# Altium footprint library 10118192-0001LF.PcbLib: 2 footprints
Each footprint in its own frame and in the unit in brackets; x right, y up, seen from the top. Pads: shape width x height; smd on the part's side, far side on the other; paste and mask are expansions set on the pad; w line width, h text height; cw(c..) or ccw(c..) is an arc to the next point about the centre after c.
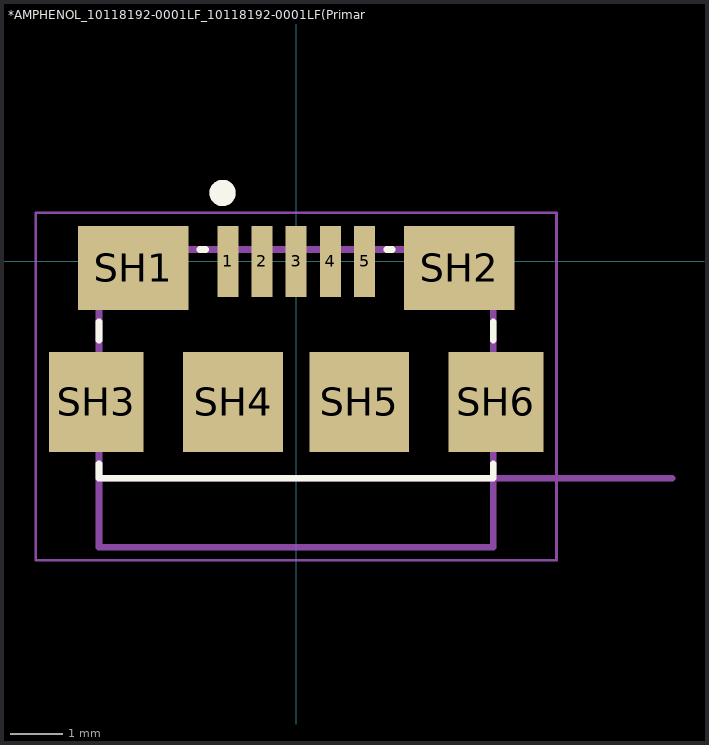
[diagram p0: the footprints below, top view; thin cyan lines are the x and y axes]

## *AMPHENOL_10118192-0001LF_10118192-0001LF(Primary) [mm]
pads (11):
  rect 0.4x1.35 smd: 1(-1.3,0) 2(-0.65,0) 3(0,0) 4(0.65,0) 5(1.3,0)
  rect 2.1x1.6 smd: SH1(-3.1,-0.125) SH2(3.1,-0.125)
  rect 1.8x1.9 smd: SH3(-3.8,-2.675) SH6(3.8,-2.675)
  rect 1.9x1.9 smd: SH4(-1.2,-2.675) SH5(1.2,-2.675)
Top Overlay:
  circle w0.3: c-1.4,1.3 r0.1
  lines w0.127: -3.75,-3.85 -3.75,-4.125 3.75,-4.125 3.75,-3.85 ; -3.75,-1.5 -3.75,-1.15 ; -1.83,0.225 -1.72,0.225 ; 1.72,0.225 1.83,0.225 ; 3.75,-1.5 3.75,-1.15
Mechanical 4:
  circle w0.3: c-1.4,1.3 r0.1
  circle w0.3: c-1.4,1.3 r0.1
  lines w0.127: -3.75,-5.436 -3.75,-4.125 ; -3.75,-5.436 3.75,-5.436 ; -3.75,-5.436 -3.75,-4.125 ; -3.75,-5.436 3.75,-5.436 ; -3.75,-4.125 3.75,-4.125 ; -3.75,-4.125 -3.75,0.225 ; -3.75,-4.125 3.75,-4.125 ; -3.75,-4.125 -3.75,0.225 ; -3.75,0.225 3.75,0.225 ; -3.75,0.225 3.75,0.225 ; 3.75,-5.436 3.75,-4.125 ; 3.75,-5.436 3.75,-4.125 ; 3.75,-4.125 7.15,-4.125 3.75,-4.125 ; 3.75,-4.125 3.75,0.225 ; 3.75,-4.125 3.75,0.225
  text "PCB Edge" at 5.205,-4.154 h1.88
  text "PCB Edge" at 5.205,-4.154 h1.88
Mechanical 16:
  lines w0.05: -4.95,-5.686 -4.95,0.925 4.95,0.925 4.95,-5.686 -4.95,-5.686

## PCBComponent_1 [mm]